# Altium footprint library Connector_JST.PcbLib: 558 footprints (part 1 of 35)
Each footprint in its own frame and in the unit in brackets; x right, y up, seen from the top. Pads: shape width x height; smd on the part's side, far side on the other; paste and mask are expansions set on the pad; w line width, h text height; cw(c..) or ccw(c..) is an arc to the next point about the centre after c.
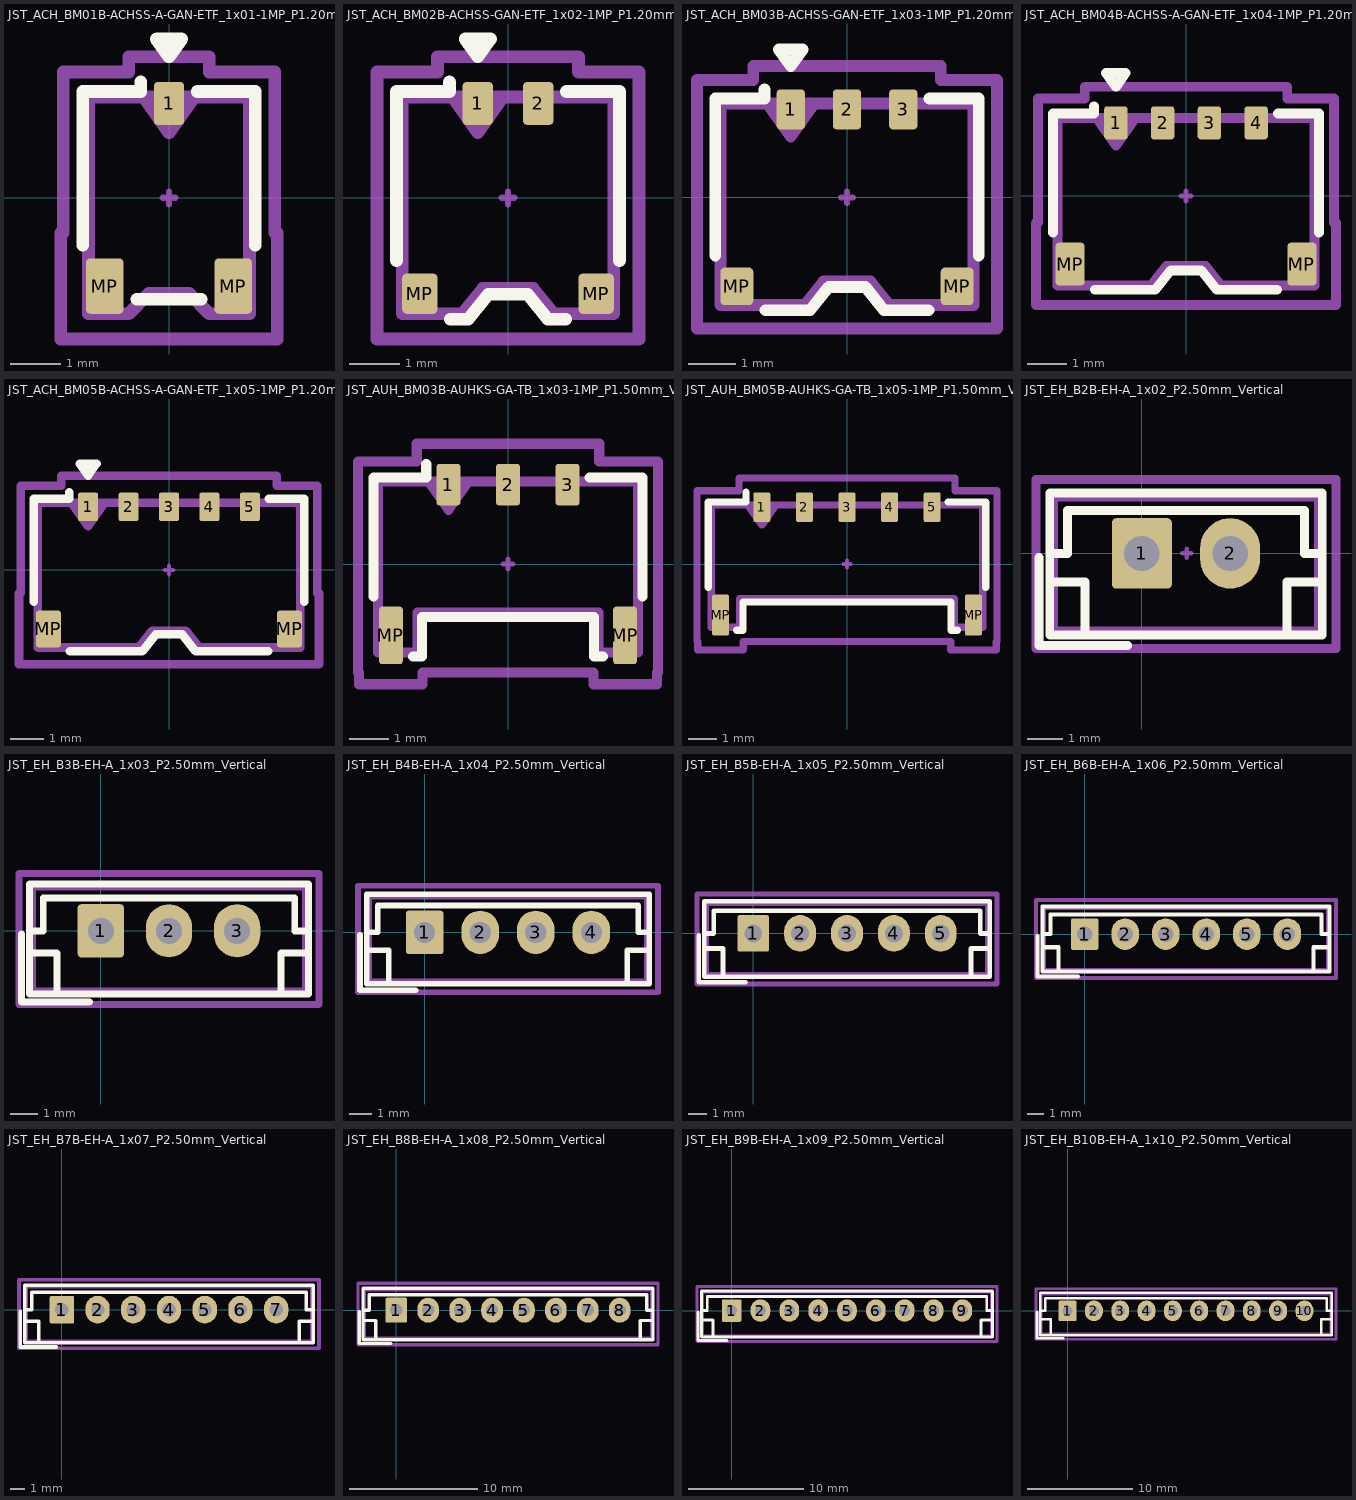
[diagram p0: the footprints below, top view; thin cyan lines are the x and y axes]

## JST_ACH_BM01B-ACHSS-A-GAN-ETF_1x01-1MP_P1.20mm_Vertical [mm] "JST_ACH_BM01B-ACHSS-A-GAN-ETF_1x01-1MP_P1.20mm_Vertical"
pads (3):
  rrect25% 0.6x0.85 smd: 1(0,1.875)
  rrect25% 0.75x1.1 smd: MP(-1.275,-1.75) MP(1.275,-1.75)
F.SilkS:
  lines w0.254: -1.71,-0.94 -1.71,2.11 -0.56,2.11 -0.56,2.3 ; -0.64,-2.01 0.64,-2.01 ; 0.56,2.11 1.71,2.11 1.71,-0.94 ; -0.25,3.154 0,2.8 0.25,3.154 -0.25,3.154
Top Component Center:
  lines w0.127: -0.127,0 0.127,0 ; 0,-0.127 0,0.127
Top Assembly:
  lines w0.254: -0.5,2 0,1.293 0.5,2 ; -1.6,-2.3 -1.6,2 1.6,2 1.6,-2.3 0.8,-2.3 0.4,-1.9 -0.4,-1.9 -0.8,-2.3 -1.6,-2.3
Top Courtyard:
  lines w0.254: -2.15,-2.8 -2.15,-0.69 -2.1,-0.69 -2.1,2.5 -0.8,2.5 -0.8,2.8 0.8,2.8 0.8,2.5 2.1,2.5 2.1,-0.69 2.15,-0.69 2.15,-2.8 -2.15,-2.8
Top Designator:
  text ".Designator" at -3.43,-0.344 h1.52

## JST_ACH_BM02B-ACHSS-GAN-ETF_1x02-1MP_P1.20mm_Vertical [mm] "JST_ACH_BM02B-ACHSS-GAN-ETF_1x02-1MP_P1.20mm_Vertical"
pads (4):
  rrect25% 0.6x0.85 smd: 1(-0.6,1.875) 2(0.6,1.875)
  rrect25% 0.7x0.8 smd: MP(-1.75,-1.9) MP(1.75,-1.9)
F.SilkS:
  lines w0.254: -2.21,-1.24 -2.21,2.11 -1.16,2.11 -1.16,2.3 ; -1.14,-2.41 -0.79,-2.41 -0.39,-1.91 0.39,-1.91 0.79,-2.41 1.14,-2.41 ; 1.16,2.11 2.21,2.11 2.21,-1.24 ; -0.85,3.154 -0.35,3.154 -0.6,2.8 -0.85,3.154
Top Component Center:
  lines w0.127: -0.127,0 0.127,0 ; 0,-0.127 0,0.127
Top Assembly:
  lines w0.254: -1.1,2 -0.6,1.293 -0.1,2 ; -2.1,-2.3 -0.9,-2.3 -0.5,-1.8 0.5,-1.8 0.9,-2.3 2.1,-2.3 2.1,2 -2.1,2 -2.1,-2.3
Top Courtyard:
  lines w0.254: -2.6,-2.8 2.6,-2.8 2.6,2.5 1.4,2.5 1.4,2.8 -1.4,2.8 -1.4,2.5 -2.6,2.5 -2.6,-2.8
Top Designator:
  text ".Designator" at -3.43,-0.344 h1.52

## JST_ACH_BM03B-ACHSS-GAN-ETF_1x03-1MP_P1.20mm_Vertical [mm] "JST_ACH_BM03B-ACHSS-GAN-ETF_1x03-1MP_P1.20mm_Vertical"
pads (5):
  rrect25% 0.6x0.85 smd: 1(-1.2,1.875) 2(0,1.875) 3(1.2,1.875)
  rrect25% 0.7x0.8 smd: MP(-2.35,-1.9) MP(2.35,-1.9)
F.SilkS:
  lines w0.254: -2.81,-1.24 -2.81,2.11 -1.76,2.11 -1.76,2.3 ; -1.74,-2.41 -0.79,-2.41 -0.39,-1.91 0.39,-1.91 0.79,-2.41 1.74,-2.41 ; 1.76,2.11 2.81,2.11 2.81,-1.24 ; -1.45,3.154 -1.2,2.8 -0.95,3.154 -1.45,3.154
Top Component Center:
  lines w0.127: -0.127,0 0.127,0 ; 0,-0.127 0,0.127
Top Assembly:
  lines w0.254: -1.7,2 -1.2,1.293 -0.7,2 ; -2.7,-2.3 -2.7,2 2.7,2 2.7,-2.3 0.9,-2.3 0.5,-1.8 -0.5,-1.8 -0.9,-2.3 -2.7,-2.3
Top Courtyard:
  lines w0.254: -3.2,-2.8 -3.2,2.5 -2,2.5 -2,2.8 2,2.8 2,2.5 3.2,2.5 3.2,-2.8 -3.2,-2.8
Top Designator:
  text ".Designator" at -3.43,-0.344 h1.52

## JST_ACH_BM04B-ACHSS-A-GAN-ETF_1x04-1MP_P1.20mm_Vertical [mm] "JST_ACH_BM04B-ACHSS-A-GAN-ETF_1x04-1MP_P1.20mm_Vertical"
pads (6):
  rrect25% 0.6x0.85 smd: 1(-1.8,1.875) 2(-0.6,1.875) 3(0.6,1.875) 4(1.8,1.875)
  rrect25% 0.75x1.1 smd: MP(-2.975,-1.75) MP(2.975,-1.75)
F.SilkS:
  lines w0.254: -3.41,-0.94 -3.41,2.11 -2.36,2.11 -2.36,2.3 ; -2.34,-2.41 -0.79,-2.41 -0.39,-1.91 0.39,-1.91 0.79,-2.41 2.34,-2.41 ; 2.36,2.11 3.41,2.11 3.41,-0.94 ; -2.05,3.154 -1.8,2.8 -1.55,3.154 -2.05,3.154
Top Component Center:
  lines w0.127: -0.127,0 0.127,0 ; 0,-0.127 0,0.127
Top Assembly:
  lines w0.254: -2.3,2 -1.8,1.293 -1.3,2 ; -3.3,-2.3 -3.3,2 3.3,2 3.3,-2.3 0.9,-2.3 0.5,-1.8 -0.5,-1.8 -0.9,-2.3 -3.3,-2.3
Top Courtyard:
  lines w0.254: -3.85,-2.8 -3.85,-0.69 -3.8,-0.69 -3.8,2.5 -2.6,2.5 -2.6,2.8 2.6,2.8 2.6,2.5 3.8,2.5 3.8,-0.69 3.85,-0.69 3.85,-2.8 -3.85,-2.8
Top Designator:
  text ".Designator" at -3.43,-0.344 h1.52

## JST_ACH_BM05B-ACHSS-A-GAN-ETF_1x05-1MP_P1.20mm_Vertical [mm] "JST_ACH_BM05B-ACHSS-A-GAN-ETF_1x05-1MP_P1.20mm_Vertical"
pads (7):
  rrect25% 0.6x0.85 smd: 1(-2.4,1.875) 2(-1.2,1.875) 3(0,1.875) 4(1.2,1.875) 5(2.4,1.875)
  rrect25% 0.75x1.1 smd: MP(-3.575,-1.75) MP(3.575,-1.75)
F.SilkS:
  lines w0.254: -4.01,-0.94 -4.01,2.11 -2.96,2.11 -2.96,2.3 ; -2.94,-2.41 -0.79,-2.41 -0.39,-1.91 0.39,-1.91 0.79,-2.41 2.94,-2.41 ; 2.96,2.11 4.01,2.11 4.01,-0.94 ; -2.65,3.154 -2.15,3.154 -2.4,2.8 -2.65,3.154
Top Component Center:
  lines w0.127: -0.127,0 0.127,0 ; 0,-0.127 0,0.127
Top Assembly:
  lines w0.254: -2.9,2 -2.4,1.293 -1.9,2 ; -3.9,-2.3 -0.9,-2.3 -0.5,-1.8 0.5,-1.8 0.9,-2.3 3.9,-2.3 3.9,2 -3.9,2 -3.9,-2.3
Top Courtyard:
  lines w0.254: -4.45,-2.8 4.45,-2.8 4.45,-0.69 4.4,-0.69 4.4,2.5 3.2,2.5 3.2,2.8 -3.2,2.8 -3.2,2.5 -4.4,2.5 -4.4,-0.69 -4.45,-0.69 -4.45,-2.8
Top Designator:
  text ".Designator" at -3.43,-0.344 h1.52

## JST_AUH_BM03B-AUHKS-GA-TB_1x03-1MP_P1.50mm_Vertical [mm] "JST_AUH_BM03B-AUHKS-GA-TB_1x03-1MP_P1.50mm_Vertical"
pads (5):
  rrect25% 0.6x1.05 smd: 1(-1.5,2) 2(0,2) 3(1.5,2)
  rrect25% 0.6x1.45 smd: MP(-2.95,-1.8) MP(2.95,-1.8)
F.SilkS:
  lines w0.254: -3.385,-0.815 -3.385,2.185 -2.06,2.185 -2.06,2.525 ; -2.39,-2.335 -2.165,-2.335 -2.165,-1.335 2.165,-1.335 2.165,-2.335 2.39,-2.335 ; 2.06,2.185 3.385,2.185 3.385,-0.815
Top Component Center:
  lines w0.127: -0.127,0 0.127,0 ; 0,-0.127 0,0.127
Top Assembly:
  lines w0.254: -2,2.075 -1.5,1.368 -1,2.075 ; -3.275,-2.225 -2.275,-2.225 -2.275,-1.225 2.275,-1.225 2.275,-2.225 3.275,-2.225 3.275,2.075 -3.275,2.075 -3.275,-2.225
Top Courtyard:
  lines w0.254: -3.78,-2.73 -3.75,-2.73 -3.75,-3.03 -2.15,-3.03 -2.15,-2.73 2.15,-2.73 2.15,-3.03 3.75,-3.03 3.75,-2.73 3.78,-2.73 3.78,2.58 2.3,2.58 2.3,3.03 -2.3,3.03 -2.3,2.58 -3.78,2.58 -3.78,-2.73
Top Designator:
  text ".Designator" at -3.43,-0.344 h1.52

## JST_AUH_BM05B-AUHKS-GA-TB_1x05-1MP_P1.50mm_Vertical [mm] "JST_AUH_BM05B-AUHKS-GA-TB_1x05-1MP_P1.50mm_Vertical"
pads (7):
  rrect25% 0.6x1.05 smd: 1(-3,2) 2(-1.5,2) 3(0,2) 4(1.5,2) 5(3,2)
  rrect25% 0.6x1.45 smd: MP(-4.45,-1.8) MP(4.45,-1.8)
F.SilkS:
  lines w0.254: -4.885,-0.815 -4.885,2.185 -3.56,2.185 -3.56,2.525 ; -3.89,-2.335 -3.665,-2.335 -3.665,-1.335 3.665,-1.335 3.665,-2.335 3.89,-2.335 ; 3.56,2.185 4.885,2.185 4.885,-0.815
Top Component Center:
  lines w0.127: -0.127,0 0.127,0 ; 0,-0.127 0,0.127
Top Assembly:
  lines w0.254: -3.5,2.075 -3,1.368 -2.5,2.075 ; -4.775,-2.225 -3.775,-2.225 -3.775,-1.225 3.775,-1.225 3.775,-2.225 4.775,-2.225 4.775,2.075 -4.775,2.075 -4.775,-2.225
Top Courtyard:
  lines w0.254: -5.28,-2.73 -5.25,-2.73 -5.25,-3.03 -3.65,-3.03 -3.65,-2.73 3.65,-2.73 3.65,-3.03 5.25,-3.03 5.25,-2.73 5.28,-2.73 5.28,2.58 3.8,2.58 3.8,3.03 -3.8,3.03 -3.8,2.58 -5.28,2.58 -5.28,-2.73
Top Designator:
  text ".Designator" at -3.43,-0.344 h1.52

## JST_EH_B2B-EH-A_1x02_P2.50mm_Vertical [mm] "JST_EH_B2B-EH-A_1x02_P2.50mm_Vertical"
pads (2):
  rrect15% 1.7x2 hole 1: 1(0,0)
  rrect100% 1.7x2 hole 1: 2(2.5,0)
F.SilkS:
  lines w0.254: -2.91,-0.11 -2.91,-2.61 -0.41,-2.61 ; -2.61,-0.81 -1.61,-0.81 -1.61,-2.31 ; -2.61,0 -2.11,0 -2.11,1.21 4.61,1.21 4.61,0 5.11,0 ; 4.11,-2.31 4.11,-0.81 5.11,-0.81 ; -2.61,-2.31 5.11,-2.31 5.11,1.71 -2.61,1.71 -2.61,-2.31
Top Component Center:
  lines w0.127: 1.143,0 1.397,0 ; 1.27,-0.127 1.27,0.127
Top Assembly:
  lines w0.254: -2.91,-0.11 -2.91,-2.61 -0.41,-2.61 ; -2.5,-2.2 5,-2.2 5,1.6 -2.5,1.6 -2.5,-2.2
Top Courtyard:
  lines w0.254: -3,-2.7 5.5,-2.7 5.5,2.1 -3,2.1 -3,-2.7
Top Designator:
  text ".Designator" at -2.287,-1.868 h1.52
3D body "JST_EH_B2B-EH-A_1x02_P2.50mm_Vertical.step": height 6, standoff -3.2, extent -2.5,-2.2 5,1.6

## JST_EH_B3B-EH-A_1x03_P2.50mm_Vertical [mm] "JST_EH_B3B-EH-A_1x03_P2.50mm_Vertical"
pads (3):
  rrect15% 1.7x1.95 hole 0.95: 1(0,0)
  rrect100% 1.7x1.95 hole 0.95: 2(2.5,0) 3(5,0)
F.SilkS:
  lines w0.254: -2.91,-0.11 -2.91,-2.61 -0.41,-2.61 ; -2.61,-0.81 -1.61,-0.81 -1.61,-2.31 ; -2.61,0 -2.11,0 -2.11,1.21 7.11,1.21 7.11,0 7.61,0 ; 6.61,-2.31 6.61,-0.81 7.61,-0.81 ; -2.61,-2.31 7.61,-2.31 7.61,1.71 -2.61,1.71 -2.61,-2.31
Top Component Center:
  lines w0.127: -0.127,0 0.127,0 ; 0,-0.127 0,0.127
Top Assembly:
  lines w0.254: -2.91,-0.11 -2.91,-2.61 -0.41,-2.61 ; -2.5,-2.2 7.5,-2.2 7.5,1.6 -2.5,1.6 -2.5,-2.2
Top Courtyard:
  lines w0.254: -3,-2.7 8,-2.7 8,2.1 -3,2.1 -3,-2.7
Top Designator:
  text ".Designator" at -0.763,-1.995 h1.52
3D body "JST_EH_B3B-EH-A_1x03_P2.50mm_Vertical.step": height 6, standoff -3.2, extent -2.5,-2.2 7.5,1.6

## JST_EH_B4B-EH-A_1x04_P2.50mm_Vertical [mm] "JST_EH_B4B-EH-A_1x04_P2.50mm_Vertical"
pads (4):
  rrect15% 1.7x1.95 hole 0.95: 1(0,0)
  rrect100% 1.7x1.95 hole 0.95: 2(2.5,0) 3(5,0) 4(7.5,0)
F.SilkS:
  lines w0.254: -2.91,-0.11 -2.91,-2.61 -0.41,-2.61 ; -2.61,-0.81 -1.61,-0.81 -1.61,-2.31 ; -2.61,0 -2.11,0 -2.11,1.21 9.61,1.21 9.61,0 10.11,0 ; 9.11,-2.31 9.11,-0.81 10.11,-0.81 ; -2.61,-2.31 10.11,-2.31 10.11,1.71 -2.61,1.71 -2.61,-2.31
Top Component Center:
  lines w0.127: -0.127,0 0.127,0 ; 0,-0.127 0,0.127
Top Assembly:
  lines w0.254: -2.91,-0.11 -2.91,-2.61 -0.41,-2.61 ; -2.5,-2.2 10,-2.2 10,1.6 -2.5,1.6 -2.5,-2.2
Top Courtyard:
  lines w0.254: -3,-2.7 10.5,-2.7 10.5,2.1 -3,2.1 -3,-2.7
Top Designator:
  text ".Designator" at 0.38,-1.868 h1.52
3D body "JST_EH_B4B-EH-A_1x04_P2.50mm_Vertical.step": height 6, standoff -3.2, extent -2.5,-2.2 10,1.6

## JST_EH_B5B-EH-A_1x05_P2.50mm_Vertical [mm] "JST_EH_B5B-EH-A_1x05_P2.50mm_Vertical"
pads (5):
  rrect15% 1.7x1.95 hole 0.95: 1(0,0)
  rrect100% 1.7x1.95 hole 0.95: 2(2.5,0) 3(5,0) 4(7.5,0) 5(10,0)
F.SilkS:
  lines w0.254: -2.91,-0.11 -2.91,-2.61 -0.41,-2.61 ; -2.61,-0.81 -1.61,-0.81 -1.61,-2.31 ; -2.61,0 -2.11,0 -2.11,1.21 12.11,1.21 12.11,0 12.61,0 ; 11.61,-2.31 11.61,-0.81 12.61,-0.81 ; -2.61,-2.31 12.61,-2.31 12.61,1.71 -2.61,1.71 -2.61,-2.31
Top Component Center:
  lines w0.127: -0.127,0 0.127,0 ; 0,-0.127 0,0.127
Top Assembly:
  lines w0.254: -2.91,-0.11 -2.91,-2.61 -0.41,-2.61 ; -2.5,-2.2 12.5,-2.2 12.5,1.6 -2.5,1.6 -2.5,-2.2
Top Courtyard:
  lines w0.254: -3,-2.7 13,-2.7 13,2.1 -3,2.1 -3,-2.7
Top Designator:
  text ".Designator" at 1.523,-1.995 h1.52
3D body "JST_EH_B5B-EH-A_1x05_P2.50mm_Vertical.step": height 6, standoff -3.2, extent -2.5,-2.2 12.5,1.6

## JST_EH_B6B-EH-A_1x06_P2.50mm_Vertical [mm] "JST_EH_B6B-EH-A_1x06_P2.50mm_Vertical"
pads (6):
  rrect15% 1.7x1.95 hole 0.95: 1(0,0)
  rrect100% 1.7x1.95 hole 0.95: 2(2.5,0) 3(5,0) 4(7.5,0) 5(10,0) 6(12.5,0)
F.SilkS:
  lines w0.254: -2.91,-0.11 -2.91,-2.61 -0.41,-2.61 ; -2.61,-0.81 -1.61,-0.81 -1.61,-2.31 ; -2.61,0 -2.11,0 -2.11,1.21 14.61,1.21 14.61,0 15.11,0 ; 14.11,-2.31 14.11,-0.81 15.11,-0.81 ; -2.61,-2.31 -2.61,1.71 15.11,1.71 15.11,-2.31 -2.61,-2.31
Top Component Center:
  lines w0.127: -0.127,0 0.127,0 ; 0,-0.127 0,0.127
Top Assembly:
  lines w0.254: -2.91,-0.11 -2.91,-2.61 -0.41,-2.61 ; -2.5,-2.2 -2.5,1.6 15,1.6 15,-2.2 -2.5,-2.2
Top Courtyard:
  lines w0.254: -3,-2.7 -3,2.1 15.5,2.1 15.5,-2.7 -3,-2.7
Top Designator:
  text ".Designator" at 2.666,-1.995 h1.52
3D body "JST_EH_B6B-EH-A_1x06_P2.50mm_Vertical.step": height 6, standoff -3.2, extent -2.5,-2.2 15,1.6

## JST_EH_B7B-EH-A_1x07_P2.50mm_Vertical [mm] "JST_EH_B7B-EH-A_1x07_P2.50mm_Vertical"
pads (7):
  rrect15% 1.7x1.95 hole 0.95: 1(0,0)
  rrect100% 1.7x1.95 hole 0.95: 2(2.5,0) 3(5,0) 4(7.5,0) 5(10,0) 6(12.5,0) 7(15,0)
F.SilkS:
  lines w0.254: -2.91,-0.11 -2.91,-2.61 -0.41,-2.61 ; -2.61,-0.81 -1.61,-0.81 -1.61,-2.31 ; -2.61,0 -2.11,0 -2.11,1.21 17.11,1.21 17.11,0 17.61,0 ; 16.61,-2.31 16.61,-0.81 17.61,-0.81 ; -2.61,-2.31 17.61,-2.31 17.61,1.71 -2.61,1.71 -2.61,-2.31
Top Component Center:
  lines w0.127: -0.127,0 0.127,0 ; 0,-0.127 0,0.127
Top Assembly:
  lines w0.254: -2.91,-0.11 -2.91,-2.61 -0.41,-2.61 ; -2.5,-2.2 17.5,-2.2 17.5,1.6 -2.5,1.6 -2.5,-2.2
Top Courtyard:
  lines w0.254: -3,-2.7 18,-2.7 18,2.1 -3,2.1 -3,-2.7
Top Designator:
  text ".Designator" at 3.301,-1.868 h1.52
3D body "JST_EH_B7B-EH-A_1x07_P2.50mm_Vertical.step": height 6, standoff -3.2, extent -2.5,-2.2 17.5,1.6

## JST_EH_B8B-EH-A_1x08_P2.50mm_Vertical [mm] "JST_EH_B8B-EH-A_1x08_P2.50mm_Vertical"
pads (8):
  rrect15% 1.7x1.95 hole 0.95: 1(0,0)
  rrect100% 1.7x1.95 hole 0.95: 2(2.5,0) 3(5,0) 4(7.5,0) 5(10,0) 6(12.5,0) 7(15,0) 8(17.5,0)
F.SilkS:
  lines w0.254: -2.91,-0.11 -2.91,-2.61 -0.41,-2.61 ; -2.61,-0.81 -1.61,-0.81 -1.61,-2.31 ; -2.61,0 -2.11,0 -2.11,1.21 19.61,1.21 19.61,0 20.11,0 ; 19.11,-2.31 19.11,-0.81 20.11,-0.81 ; -2.61,-2.31 20.11,-2.31 20.11,1.71 -2.61,1.71 -2.61,-2.31
Top Component Center:
  lines w0.127: -0.127,0 0.127,0 ; 0,-0.127 0,0.127
Top Assembly:
  lines w0.254: -2.91,-0.11 -2.91,-2.61 -0.41,-2.61 ; -2.5,-2.2 20,-2.2 20,1.6 -2.5,1.6 -2.5,-2.2
Top Courtyard:
  lines w0.254: -3,-2.7 20.5,-2.7 20.5,2.1 -3,2.1 -3,-2.7
Top Designator:
  text ".Designator" at 5.206,-1.868 h1.52
3D body "JST_EH_B8B-EH-A_1x08_P2.50mm_Vertical.step": height 6, standoff -3.2, extent -2.5,-2.2 20,1.6

## JST_EH_B9B-EH-A_1x09_P2.50mm_Vertical [mm] "JST_EH_B9B-EH-A_1x09_P2.50mm_Vertical"
pads (9):
  rrect15% 1.7x1.95 hole 0.95: 1(0,0)
  rrect100% 1.7x1.95 hole 0.95: 2(2.5,0) 3(5,0) 4(7.5,0) 5(10,0) 6(12.5,0) 7(15,0) 8(17.5,0) 9(20,0)
F.SilkS:
  lines w0.254: -2.91,-0.11 -2.91,-2.61 -0.41,-2.61 ; -2.61,-0.81 -1.61,-0.81 -1.61,-2.31 ; -2.61,0 -2.11,0 -2.11,1.21 22.11,1.21 22.11,0 22.61,0 ; 21.61,-2.31 21.61,-0.81 22.61,-0.81 ; -2.61,-2.31 -2.61,1.71 22.61,1.71 22.61,-2.31 -2.61,-2.31
Top Component Center:
  lines w0.127: -0.127,0 0.127,0 ; 0,-0.127 0,0.127
Top Assembly:
  lines w0.254: -2.91,-0.11 -2.91,-2.61 -0.41,-2.61 ; -2.5,-2.2 -2.5,1.6 22.5,1.6 22.5,-2.2 -2.5,-2.2
Top Courtyard:
  lines w0.254: -3,-2.7 -3,2.1 23,2.1 23,-2.7 -3,-2.7
Top Designator:
  text ".Designator" at 5.714,-1.741 h1.52
3D body "JST_EH_B9B-EH-A_1x09_P2.50mm_Vertical.step": height 6, standoff -3.2, extent -2.5,-2.2 22.5,1.6

## JST_EH_B10B-EH-A_1x10_P2.50mm_Vertical [mm] "JST_EH_B10B-EH-A_1x10_P2.50mm_Vertical"
pads (10):
  rrect15% 1.7x1.95 hole 0.95: 1(0,0)
  rrect100% 1.7x1.95 hole 0.95: 2(2.5,0) 3(5,0) 4(7.5,0) 5(10,0) 6(12.5,0) 7(15,0) 8(17.5,0) 9(20,0) 10(22.5,0)
F.SilkS:
  lines w0.254: -2.91,-0.11 -2.91,-2.61 -0.41,-2.61 ; -2.61,-0.81 -1.61,-0.81 -1.61,-2.31 ; -2.61,0 -2.11,0 -2.11,1.21 24.61,1.21 24.61,0 25.11,0 ; 24.11,-2.31 24.11,-0.81 25.11,-0.81 ; -2.61,-2.31 25.11,-2.31 25.11,1.71 -2.61,1.71 -2.61,-2.31
Top Component Center:
  lines w0.127: -0.127,0 0.127,0 ; 0,-0.127 0,0.127
Top Assembly:
  lines w0.254: -2.91,-0.11 -2.91,-2.61 -0.41,-2.61 ; -2.5,-2.2 25,-2.2 25,1.6 -2.5,1.6 -2.5,-2.2
Top Courtyard:
  lines w0.254: -3,-2.7 25.5,-2.7 25.5,2.1 -3,2.1 -3,-2.7
Top Designator:
  text ".Designator" at 7.619,-1.741 h1.52
3D body "JST_EH_B10B-EH-A_1x10_P2.50mm_Vertical.step": height 6, standoff -3.2, extent -2.5,-2.2 25,1.6